# Altium footprint library CHIP_PKG.PcbLib: 20 footprints (part 1 of 2)
Each footprint in its own frame and in the unit in brackets; x right, y up, seen from the top. Pads: shape width x height; smd on the part's side, far side on the other; paste and mask are expansions set on the pad; w line width, h text height; cw(c..) or ccw(c..) is an arc to the next point about the centre after c.
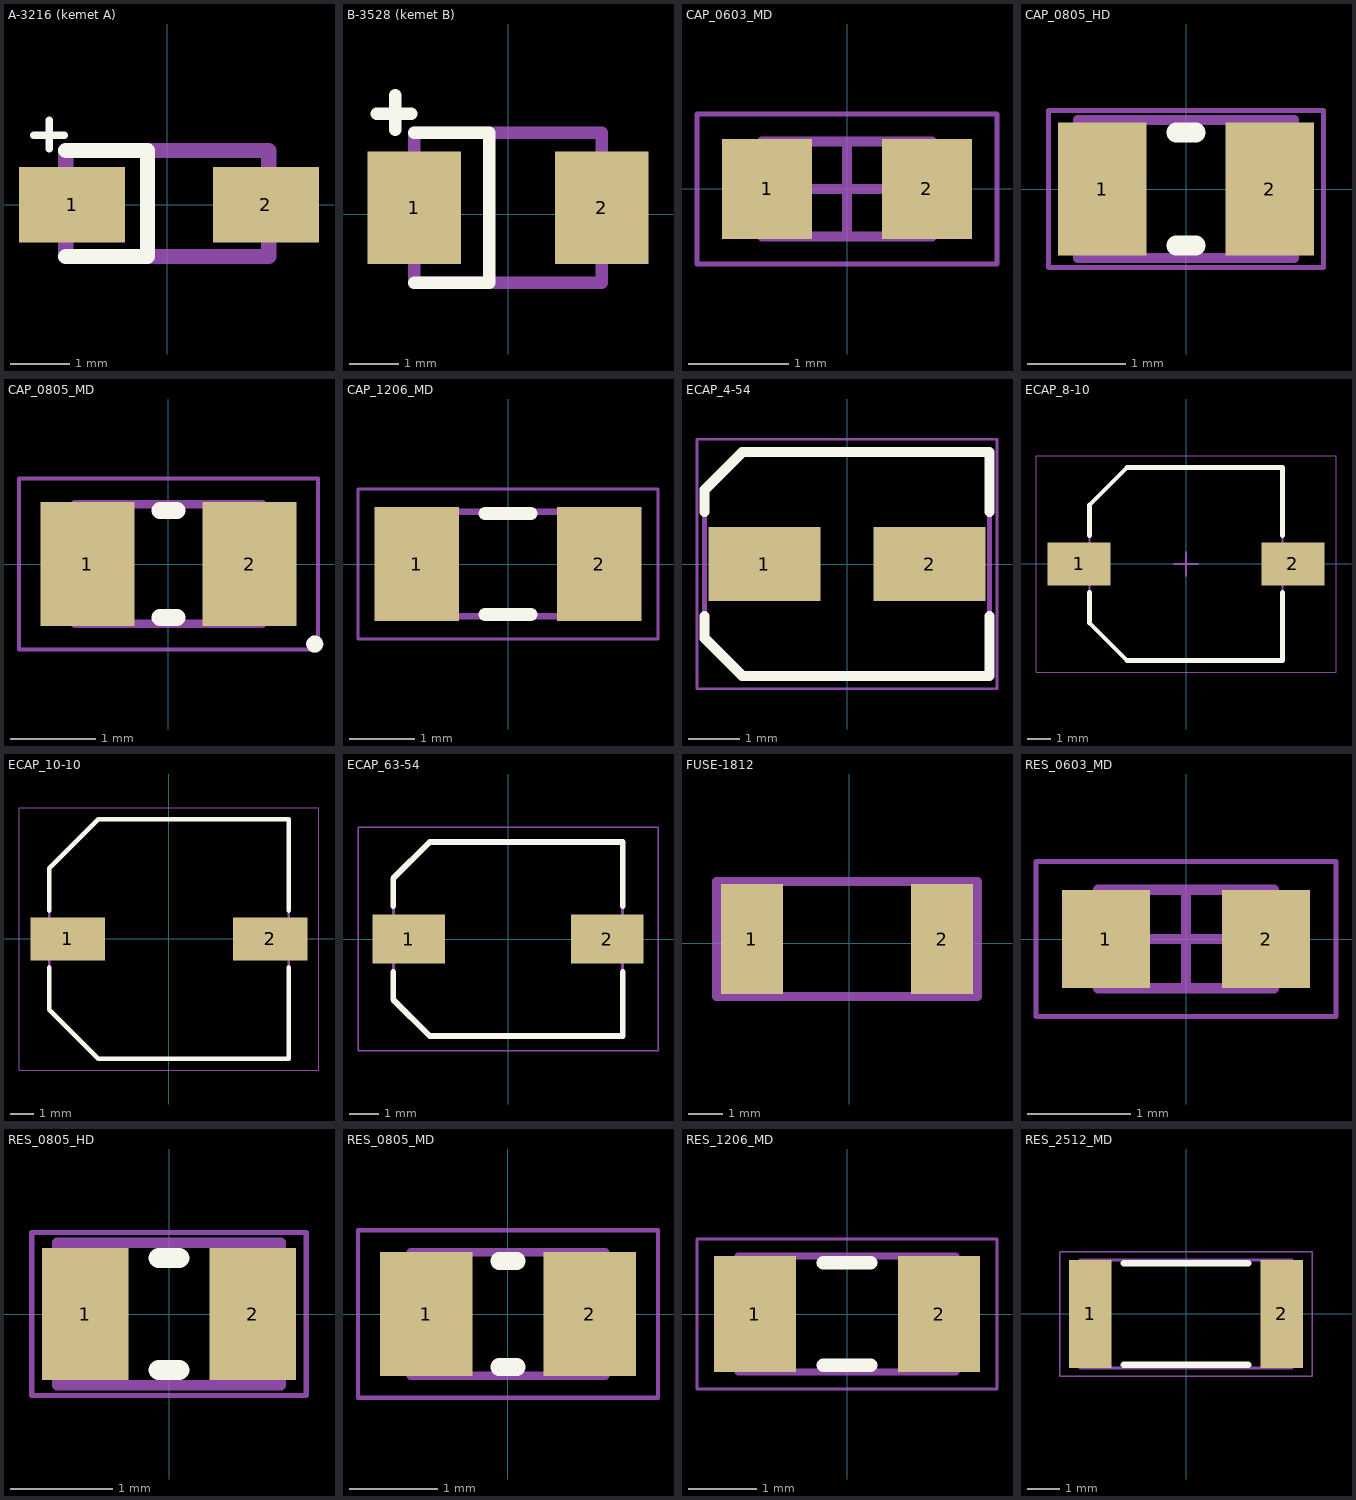
[diagram p0: the footprints below, top view; thin cyan lines are the x and y axes]

## A-3216 (kemet A) [mm]
pads (2):
  rect 1.78x1.27 smd: 1(-1.596,0) 2(1.654,0)
Top Overlay:
  lines w0.127: -2.235,1.168 -1.727,1.168 ; -1.981,0.94 -1.981,1.194 ; -1.981,1.168 -1.981,1.422
  lines w0.254: -1.702,-0.864 -0.33,-0.864 -0.33,0.914 -1.702,0.914
Top Assembly:
  lines w0.254: -1.702,-0.864 1.702,-0.864 1.702,0.914 -1.702,0.914 -1.702,-0.864
Top Courtyard:
  lines w0.254: -1.702,-0.864 -1.702,0.914 1.702,0.914 1.702,-0.864 -1.702,-0.864
3D body "kemet-A.stp": height 1.81, standoff 0.01, extent -1.7,-0.889 1.7,0.911

## B-3528 (kemet B) [mm]
pads (2):
  rect 1.9x2.28 smd: 1(-1.905,0.127) 2(1.905,0.127)
Top Overlay:
  lines w0.254: -2.667,2.032 -1.968,2.032 ; -2.286,1.714 -2.286,2.413 ; -1.905,-1.397 -0.381,-1.397 -0.381,1.651 -1.905,1.651
Top Assembly:
  lines w0.254: -1.905,-1.397 1.905,-1.397 1.905,1.651 -1.905,1.651 -1.905,-1.397
Top Courtyard:
  lines w0.254: -1.905,-1.397 -1.905,1.651 1.905,1.651 1.905,-1.397 -1.905,-1.397
3D body "kemet-B.stp": height 2.11, standoff 0.01, extent -1.85,-1.397 1.85,1.603

## CAP_0603_MD [mm]
height 0.9
pads (2):
  rect 0.9x1 smd: 1(-0.8,0) 2(0.8,0)
Top Assembly:
  lines w0.1: -0.85,-0.475 -0.85,0.475 0.85,0.475 0.85,-0.475 -0.85,-0.475
Top Courtyard:
  lines w0.05: -1.5,-0.75 -1.5,0.75 1.5,0.75 1.5,-0.75 -1.5,-0.75
  lines w0.1: -0.475,0 0.475,0 ; 0,-0.475 0,0.475
3D body: height 0.9, standoff 0, extent -0.6,-0.475 0.6,0.475
3D body: height 0.9, standoff 0, extent -0.85,-0.475 -0.6,0.475
3D body: height 0.9, standoff 0, extent 0.6,-0.475 0.85,0.475

## CAP_0805_HD [mm] "Chip Capacitor, 2-Leads, Body 2,10x1,30mm, IPC High Density"
height 1.3
pads (2):
  rect 0.9x1.35 smd: 1(-0.85,0) 2(0.85,0)
Top Overlay:
  lines w0.2: -0.1,-0.575 0.1,-0.575 ; -0.1,0.575 0.1,0.575
Top Assembly:
  lines w0.05: -1.4,-0.8 -1.4,0.8 1.4,0.8 1.4,-0.8 -1.4,-0.8
Top Courtyard:
  lines w0.1: -1.1,-0.7 1.1,-0.7 1.1,0.7 -1.1,0.7 -1.1,-0.7
3D body "CAPC2113X13L.step": height 1.3, standoff 0, extent -1.1,-0.7 1.1,0.7

## CAP_0805_MD [mm]
height 1.3
pads (2):
  rect 1.1x1.45 smd: 1(-0.95,0) 2(0.95,0)
Top Overlay:
  circle w0.1: c1.712,-0.937 r0.05
  lines w0.2: -0.1,-0.625 0.1,-0.625 ; -0.1,0.625 0.1,0.625
Top Assembly:
  lines w0.05: -1.75,-1 -1.75,1 1.75,1 1.75,-1 -1.75,-1
Top Courtyard:
  lines w0.1: -1.1,-0.7 -1.1,0.7 1.1,0.7 1.1,-0.7 -1.1,-0.7
3D body "Chip2PinSM127P600-8N.step": height 1.3, standoff 0, extent -1.1,-0.7 1.1,0.7

## CAP_1206_MD [mm] "Chip Capacitor, 2-Leads, Body 3,20x1,60mm, IPC Medium Density"
height 1.6
pads (2):
  rect 1.3x1.75 smd: 1(-1.4,0) 2(1.4,0)
Top Overlay:
  lines w0.2: -0.35,-0.775 0.35,-0.775 ; -0.35,0.775 0.35,0.775
Top Assembly:
  lines w0.05: -2.3,-1.15 -2.3,1.15 2.3,1.15 2.3,-1.15 -2.3,-1.15
Top Courtyard:
  lines w0.1: -1.6,-0.8 -1.6,0.8 1.6,0.8 1.6,-0.8 -1.6,-0.8
3D body "CAPC1206-MD.step": height 1.6, standoff 0, extent -1.6,-0.8 1.6,0.8

## ECAP_4-54 [mm] "Aluminum Electrolytic Capacitor, Body 5,50x4,30x6,30mm, IPC High Density"
height 6.3
pads (2):
  rect 2.2x1.45 smd: 1(-1.625,0) 2(1.625,0)
Top Overlay:
  lines w0.2: -2.8,-1.025 -2.8,-1.462 -2.063,-2.2 2.8,-2.2 2.8,-1.025 ; -2.8,1.025 -2.8,1.462 -2.063,2.2 2.8,2.2 2.8,1.025
Top Assembly:
  lines w0.05: -2.95,-2.45 -2.95,2.45 2.95,2.45 2.95,-2.45 -2.95,-2.45
Top Courtyard:
  lines w0.1: -2.8,-1.462 -2.063,-2.2 2.8,-2.2 2.8,2.2 -2.063,2.2 -2.8,1.462 -2.8,-1.462
3D body "CAPAE4643X63L.step": height 6.3, standoff 0, extent -2.8,-2.2 2.8,2.2

## ECAP_8-10 [mm] "Aluminum Electrolytic Capacitor, Body 8,30x8,30x10,50mm, IPC Medium Density"
height 10.5
pads (2):
  rect 2.7x1.85 smd: 1(-4.6,0) 2(4.6,0)
Top Overlay:
  lines w0.2: -4.15,-1.225 -4.15,-2.538 -2.538,-4.15 4.15,-4.15 4.15,-1.225 ; -4.15,1.225 -4.15,2.538 -2.538,4.15 4.15,4.15 4.15,1.225
Top Assembly:
  lines w0.1: -4.15,-2.538 -4.15,2.538 -2.538,4.15 4.15,4.15 4.15,-4.15 -2.538,-4.15 -4.15,-2.538
Top Courtyard:
  lines w0.05: -6.45,-4.65 6.45,-4.65 6.45,4.65 -6.45,4.65 -6.45,-4.65
  lines w0.1: -0.5,0 0.5,0 ; 0,-0.5 0,0.5
3D body "ECAP_8-10.step": height 10.5, standoff 0, extent -5.15,-4.15 5.15,4.15

## ECAP_10-10 [mm] "Aluminum Electrolytic Capacitor, Body 10,30x10,30x10,50mm, IPC Medium Density"
height 10.5
pads (2):
  rect 3.2x1.85 smd: 1(-4.35,0) 2(4.35,0)
Top Overlay:
  lines w0.2: -5.15,-1.225 -5.15,-3.037 -3.037,-5.15 5.15,-5.15 5.15,-1.225 ; -5.15,1.225 -5.15,3.037 -3.037,5.15 5.15,5.15 5.15,1.225
Top Assembly:
  lines w0.05: -6.45,-5.65 -6.45,5.65 6.45,5.65 6.45,-5.65 -6.45,-5.65
Top Courtyard:
  lines w0.1: -5.15,-3.037 -3.037,-5.15 5.15,-5.15 5.15,5.15 -3.037,5.15 -5.15,3.037 -5.15,-3.037
3D body "CAPAE103103X105N.step": height 10.5, standoff 0, extent -5.15,-5.15 5.15,5.15

## ECAP_63-54 [mm] "Aluminum Electrolytic Capacitor, Body 7,80x6,60x7,70mm, IPC Medium Density"
height 7.7
pads (2):
  rect 2.45x1.65 smd: 1(-3.375,0) 2(3.375,0)
Top Overlay:
  lines w0.2: -3.9,-1.125 -3.9,-2.063 -2.662,-3.3 3.9,-3.3 3.9,-1.125 ; -3.9,1.125 -3.9,2.063 -2.662,3.3 3.9,3.3 3.9,1.125
Top Assembly:
  lines w0.05: -5.1,-3.8 -5.1,3.8 5.1,3.8 5.1,-3.8 -5.1,-3.8
Top Courtyard:
  lines w0.1: -3.9,-2.063 -2.662,-3.3 3.9,-3.3 3.9,3.3 -2.662,3.3 -3.9,2.063 -3.9,-2.063
3D body "CAPAE8066X77N.step": height 7.7, standoff 0, extent -4,-3.3 4,3.3

## FUSE-1812 [mm]
pads (2):
  rect 1.78x3.15 smd: 1(-2.794,0.127) 2(2.667,0.127)
Top Assembly:
  lines w0.254: -3.81,-1.524 -3.81,1.778 3.683,1.778 3.683,-1.524 -3.81,-1.524
Top Courtyard:
  lines w0.254: -3.81,-1.524 -3.81,1.778 3.683,1.778 3.683,-1.524 -3.81,-1.524
3D body "User Library-1812L.step": height 1.34, standoff 0, extent -2.314,-1.578 2.416,1.832

## RES_0603_MD [mm]
height 0.5
pads (2):
  rect 0.85x0.95 smd: 1(-0.775,0) 2(0.775,0)
Top Assembly:
  lines w0.1: -0.85,-0.475 0.85,-0.475 0.85,0.475 -0.85,0.475 -0.85,-0.475
Top Courtyard:
  lines w0.05: -1.45,-0.75 1.45,-0.75 1.45,0.75 -1.45,0.75 -1.45,-0.75
  lines w0.1: -0.475,0 0.475,0 ; 0,-0.475 0,0.475
3D body "RES_0603_MD.step": height 0.5, standoff 0, extent -0.85,-0.475 0.85,0.475

## RES_0805_HD [mm] "Chip Resistor, 2-Leads, Body 2,10x1,30mm, IPC High Density"
height 0.6
pads (2):
  rect 0.85x1.3 smd: 1(-0.825,0) 2(0.825,0)
Top Overlay:
  lines w0.2: -0.1,-0.55 0.1,-0.55 ; -0.1,0.55 0.1,0.55
Top Assembly:
  lines w0.05: -1.35,-0.8 1.35,-0.8 1.35,0.8 -1.35,0.8 -1.35,-0.8
Top Courtyard:
  lines w0.1: -1.1,-0.7 1.1,-0.7 1.1,0.7 -1.1,0.7 -1.1,-0.7
3D body "RESC2113X06L.step": height 0.6, standoff 0, extent -1.1,-0.7 1.1,0.7

## RES_0805_MD [mm]
height 0.6
pads (2):
  rect 1.05x1.4 smd: 1(-0.925,0) 2(0.925,0)
Top Overlay:
  lines w0.2: -0.1,-0.6 0.1,-0.6 ; -0.1,0.6 0.1,0.6
Top Assembly:
  lines w0.05: -1.7,-0.95 -1.7,0.95 1.7,0.95 1.7,-0.95 -1.7,-0.95
Top Courtyard:
  lines w0.1: -1.1,-0.7 1.1,-0.7 1.1,0.7 -1.1,0.7 -1.1,-0.7
3D body "Chip2PinSM127P600-8N-RES.step": height 0.6, standoff 0, extent -1.1,-0.7 1.1,0.7

## RES_1206_MD [mm]
height 0.6
pads (2):
  rect 1.2x1.7 smd: 1(-1.35,0) 2(1.35,0)
Top Overlay:
  lines w0.2: -0.35,-0.75 0.35,-0.75 ; -0.35,0.75 0.35,0.75
Top Assembly:
  lines w0.05: -2.2,-1.1 -2.2,1.1 2.2,1.1 2.2,-1.1 -2.2,-1.1
Top Courtyard:
  lines w0.1: -1.6,-0.85 1.6,-0.85 1.6,0.85 -1.6,0.85 -1.6,-0.85
3D body "CHIPRES1206MD.step": height 0.6, standoff 0, extent -1.6,-0.85 1.6,0.85

## RES_2512_MD [mm] "Chip Resistor, 2-Leads, Body 6,35x3,20mm, IPC Medium Density"
height 0.6
pads (2):
  rect 1.3x3.3 smd: 1(-2.925,0) 2(2.925,0)
Top Overlay:
  lines w0.2: -1.9,-1.55 1.9,-1.55 ; -1.9,1.55 1.9,1.55
Top Assembly:
  lines w0.05: -3.85,-1.9 -3.85,1.9 3.85,1.9 3.85,-1.9 -3.85,-1.9
Top Courtyard:
  lines w0.1: -3.225,-1.65 3.225,-1.65 3.225,1.65 -3.225,1.65 -3.225,-1.65
3D body "RESC6432X06N.step": height 0.6, standoff 0, extent -3.225,-1.65 3.225,1.65